# Altium footprint library HDSP-4832.PcbLib: 1 footprints
Each footprint in its own frame and in the unit in brackets; x right, y up, seen from the top. Pads: shape width x height; smd on the part's side, far side on the other; paste and mask are expansions set on the pad; w line width, h text height; cw(c..) or ccw(c..) is an arc to the next point about the centre after c.
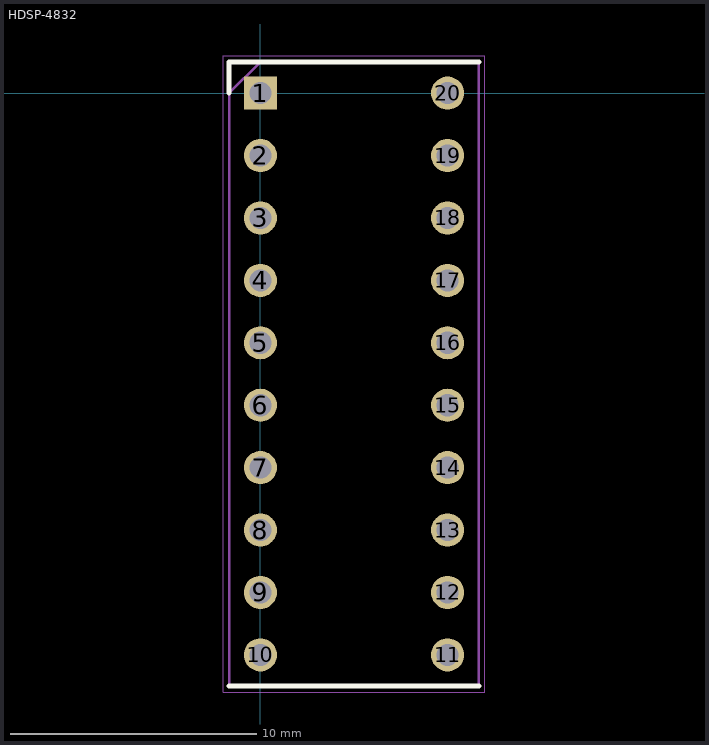
[diagram p0: the footprint, top view; thin cyan lines are the x and y axes]

## HDSP-4832 [mm]
pads (20):
  rect 1.35x1.35 hole 0.9: 1(0,0)
  round 1.35 hole 0.9: 2(0,-2.54) 3(0,-5.08) 4(0,-7.62) 5(0,-10.16) 6(0,-12.7) 7(0,-15.24) 8(0,-17.78) 9(0,-20.32) 10(0,-22.86) 11(7.62,-22.86) 12(7.62,-20.32) 13(7.62,-17.78) 14(7.62,-15.24) 15(7.62,-12.7) 16(7.62,-10.16) 17(7.62,-7.62) 18(7.62,-5.08) 19(7.62,-2.54) 20(7.62,0)
Top Overlay:
  lines w0.2: -1.27,-24.13 8.89,-24.13 ; -1.27,0 -1.27,1.27 8.89,1.27
Mechanical 13:
  lines w0.1: -1.27,0 0,1.27 ; -1.27,-24.13 8.89,-24.13 8.89,1.27 -1.27,1.27 -1.27,-24.13
Mechanical 15:
  lines w0.05: -1.52,-24.38 9.14,-24.38 9.14,1.52 -1.52,1.52 -1.52,-24.38
3D body "barraLed HDSP-4832.STEP": height 8.63, standoff -1.53, extent -1.27,-24.13 8.89,1.27